# Altium footprint library Microcircuits.PcbLib: 31 footprints (part 2 of 2)
Each footprint in its own frame and in the unit in brackets; x right, y up, seen from the top. Pads: shape width x height; smd on the part's side, far side on the other; paste and mask are expansions set on the pad; w line width, h text height; cw(c..) or ccw(c..) is an arc to the next point about the centre after c.
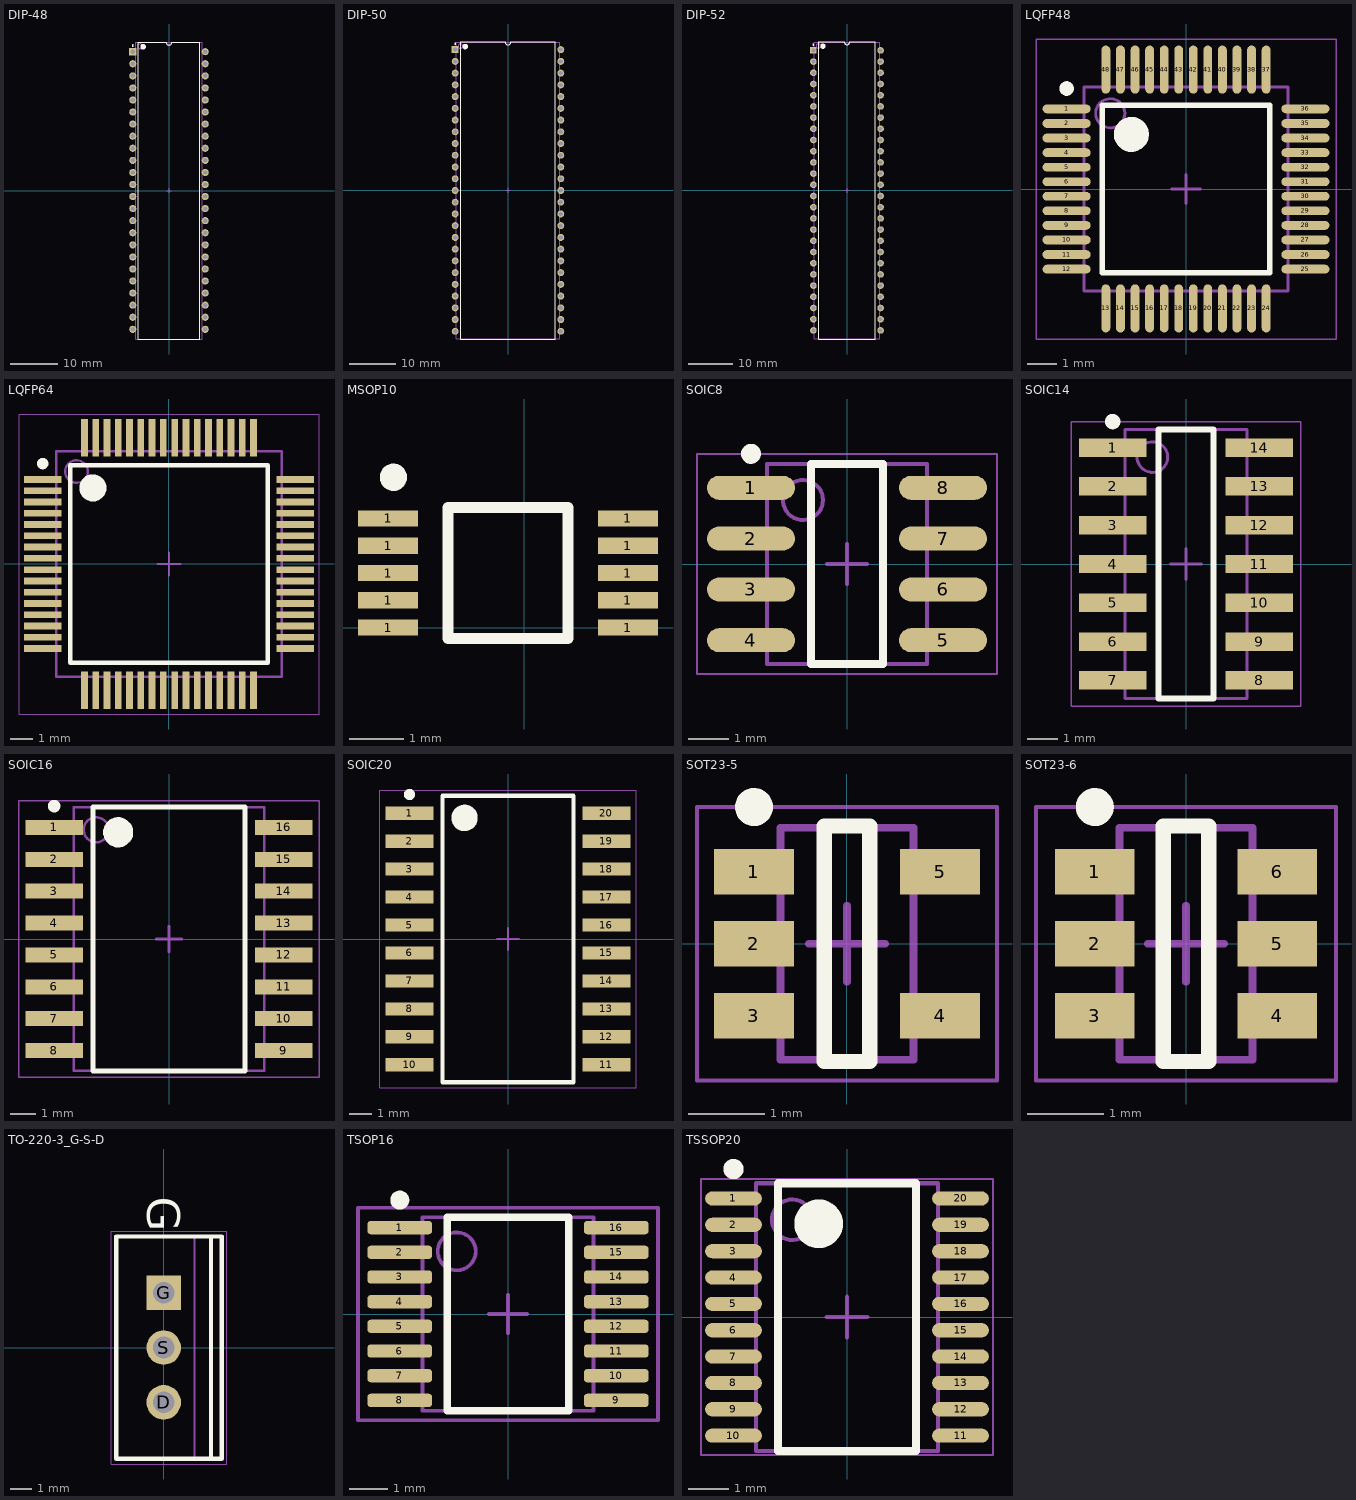
[diagram p1: the footprints below, top view; thin cyan lines are the x and y axes]

## DIP-48 [mm] "DIP, Molded, 48-Pin, Row Spacing 15.24 mm, Pitch 2.54 mm"
height 5.34
pads (48):
  rect 1.5x1.5 hole 0.9: 1(-7.62,29.21)
  round 1.5 hole 0.9: 2(-7.62,26.67) 3(-7.62,24.13) 4(-7.62,21.59) 5(-7.62,19.05) 6(-7.62,16.51) 7(-7.62,13.97) 8(-7.62,11.43) 9(-7.62,8.89) 10(-7.62,6.35) 11(-7.62,3.81) 12(-7.62,1.27) 13(-7.62,-1.27) 14(-7.62,-3.81) 15(-7.62,-6.35) 16(-7.62,-8.89) 17(-7.62,-11.43) 18(-7.62,-13.97) 19(-7.62,-16.51) 20(-7.62,-19.05) 21(-7.62,-21.59) 22(-7.62,-24.13) 23(-7.62,-26.67) 24(-7.62,-29.21) 25(7.62,-29.21) 26(7.62,-26.67) 27(7.62,-24.13) 28(7.62,-21.59) 29(7.62,-19.05) 30(7.62,-16.51) 31(7.62,-13.97) 32(7.62,-11.43) 33(7.62,-8.89) 34(7.62,-6.35) 35(7.62,-3.81) 36(7.62,-1.27) 37(7.62,1.27) 38(7.62,3.81) 39(7.62,6.35) 40(7.62,8.89) 41(7.62,11.43) 42(7.62,13.97) 43(7.62,16.51) 44(7.62,19.05) 45(7.62,21.59) 46(7.62,24.13) 47(7.62,26.67) 48(7.62,29.21)
Top Overlay:
  circle w0.25: c-7.62,30.51 r0.125
  circle w0.6: c-5.45,30.25 r0.3
  lines w0.2: -6.45,-31.25 -6.45,31.25 -0.635,31.25 ccw(c0,31.25) 0.635,31.25 6.45,31.25 6.45,-31.25 -6.45,-31.25
Mechanical 13:
  circle w0.1: c-6.075,30.35 r0.5
  lines w0.1: -6.975,-31.25 -6.975,31.25 6.975,31.25 6.975,-31.25 -6.975,-31.25
Mechanical 15:
  lines w0.1: -0.5,0 0.5,0 ; 0,-0.5 0,0.5
3D body: height 5.34, standoff 0, extent -6.975,-31.25 6.975,31.25

## DIP-50 [mm] "DIP, Ceramic, 50-Pin, Row Spacing 22.86 mm, Pitch 2.54 mm"
height 5.08
pads (50):
  rect 1.5x1.5 hole 0.9: 1(-11.43,30.48)
  round 1.5 hole 0.9: 2(-11.43,27.94) 3(-11.43,25.4) 4(-11.43,22.86) 5(-11.43,20.32) 6(-11.43,17.78) 7(-11.43,15.24) 8(-11.43,12.7) 9(-11.43,10.16) 10(-11.43,7.62) 11(-11.43,5.08) 12(-11.43,2.54) 13(-11.43,0) 14(-11.43,-2.54) 15(-11.43,-5.08) 16(-11.43,-7.62) 17(-11.43,-10.16) 18(-11.43,-12.7) 19(-11.43,-15.24) 20(-11.43,-17.78) 21(-11.43,-20.32) 22(-11.43,-22.86) 23(-11.43,-25.4) 24(-11.43,-27.94) 25(-11.43,-30.48) 26(11.43,-30.48) 27(11.43,-27.94) 28(11.43,-25.4) 29(11.43,-22.86) 30(11.43,-20.32) 31(11.43,-17.78) 32(11.43,-15.24) 33(11.43,-12.7) 34(11.43,-10.16) 35(11.43,-7.62) 36(11.43,-5.08) 37(11.43,-2.54) 38(11.43,0) 39(11.43,2.54) 40(11.43,5.08) 41(11.43,7.62) 42(11.43,10.16) 43(11.43,12.7) 44(11.43,15.24) 45(11.43,17.78) 46(11.43,20.32) 47(11.43,22.86) 48(11.43,25.4) 49(11.43,27.94) 50(11.43,30.48)
Top Overlay:
  circle w0.6: c-9.25,31.15 r0.3
  circle w0.25: c-11.43,31.78 r0.125
  lines w0.2: -10.25,-32.15 10.25,-32.15 10.25,32.15 0.635,32.15 cw(c0,32.15) -0.635,32.15 -10.25,32.15 -10.25,-32.15
Mechanical 13:
  circle w0.1: c-10.3,31.225 r0.5
  lines w0.1: -11.2,-32.125 11.2,-32.125 11.2,32.125 -11.2,32.125 -11.2,-32.125
Mechanical 15:
  lines w0.1: -0.5,0 0.5,0 ; 0,-0.5 0,0.5
3D body: height 5.08, standoff 0, extent -11.2,-32.125 11.2,32.125

## DIP-52 [mm] "DIP, Ceramic, 52-Pin, Row Spacing 15.24 mm, Pitch 2.54 mm"
height 4.45
pads (52):
  rect 1.5x1.5 hole 0.9: 1(-7.62,31.75)
  round 1.5 hole 0.9: 2(-7.62,29.21) 3(-7.62,26.67) 4(-7.62,24.13) 5(-7.62,21.59) 6(-7.62,19.05) 7(-7.62,16.51) 8(-7.62,13.97) 9(-7.62,11.43) 10(-7.62,8.89) 11(-7.62,6.35) 12(-7.62,3.81) 13(-7.62,1.27) 14(-7.62,-1.27) 15(-7.62,-3.81) 16(-7.62,-6.35) 17(-7.62,-8.89) 18(-7.62,-11.43) 19(-7.62,-13.97) 20(-7.62,-16.51) 21(-7.62,-19.05) 22(-7.62,-21.59) 23(-7.62,-24.13) 24(-7.62,-26.67) 25(-7.62,-29.21) 26(-7.62,-31.75) 27(7.62,-31.75) 28(7.62,-29.21) 29(7.62,-26.67) 30(7.62,-24.13) 31(7.62,-21.59) 32(7.62,-19.05) 33(7.62,-16.51) 34(7.62,-13.97) 35(7.62,-11.43) 36(7.62,-8.89) 37(7.62,-6.35) 38(7.62,-3.81) 39(7.62,-1.27) 40(7.62,1.27) 41(7.62,3.81) 42(7.62,6.35) 43(7.62,8.89) 44(7.62,11.43) 45(7.62,13.97) 46(7.62,16.51) 47(7.62,19.05) 48(7.62,21.59) 49(7.62,24.13) 50(7.62,26.67) 51(7.62,29.21) 52(7.62,31.75)
Top Overlay:
  circle w0.6: c-5.45,32.7 r0.3
  circle w0.25: c-7.62,33.05 r0.125
  lines w0.2: -6.45,-33.7 6.45,-33.7 6.45,33.7 0.635,33.7 cw(c0,33.7) -0.635,33.7 -6.45,33.7 -6.45,-33.7
Mechanical 13:
  circle w0.1: c-6.525,32.75 r0.5
  lines w0.1: -7.425,-33.65 7.425,-33.65 7.425,33.65 -7.425,33.65 -7.425,-33.65
Mechanical 15:
  lines w0.1: -0.5,0 0.5,0 ; 0,-0.5 0,0.5
3D body: height 4.45, standoff 0, extent -7.425,-33.65 7.425,33.65

## LQFP48 [mm]
height 1.6
pads (48):
  oval 1.65x0.3 smd: 1(-4.1,2.75) 2(-4.1,2.25) 3(-4.1,1.75) 4(-4.1,1.25) 5(-4.1,0.75) 6(-4.1,0.25) 7(-4.1,-0.25) 8(-4.1,-0.75) 9(-4.1,-1.25) 10(-4.1,-1.75) 11(-4.1,-2.25) 12(-4.1,-2.75) 25(4.1,-2.75) 26(4.1,-2.25) 27(4.1,-1.75) 28(4.1,-1.25) 29(4.1,-0.75) 30(4.1,-0.25) 31(4.1,0.25) 32(4.1,0.75) 33(4.1,1.25) 34(4.1,1.75) 35(4.1,2.25) 36(4.1,2.75)
  oval 0.3x1.65 smd: 13(-2.75,-4.1) 14(-2.25,-4.1) 15(-1.75,-4.1) 16(-1.25,-4.1) 17(-0.75,-4.1) 18(-0.25,-4.1) 19(0.25,-4.1) 20(0.75,-4.1) 21(1.25,-4.1) 22(1.75,-4.1) 23(2.25,-4.1) 24(2.75,-4.1) 37(2.75,4.1) 38(2.25,4.1) 39(1.75,4.1) 40(1.25,4.1) 41(0.75,4.1) 42(0.25,4.1) 43(-0.25,4.1) 44(-0.75,4.1) 45(-1.25,4.1) 46(-1.75,4.1) 47(-2.25,4.1) 48(-2.75,4.1)
Top Overlay:
  circle w0.6: c-1.875,1.875 r0.3
  circle w0.25: c-4.1,3.45 r0.125
  lines w0.2: -2.875,-2.875 2.875,-2.875 2.875,2.875 -2.875,2.875 -2.875,-2.875
Mechanical 13:
  circle w0.1: c-2.6,2.6 r0.5
  lines w0.1: -3.5,-3.5 3.5,-3.5 3.5,3.5 -3.5,3.5 -3.5,-3.5
Mechanical 15:
  lines w0.05: -5.15,-5.15 5.15,-5.15 5.15,5.15 -5.15,5.15 -5.15,-5.15
  lines w0.1: -0.5,0 0.5,0 ; 0,-0.5 0,0.5
3D body: height 1.6, standoff 0.1, extent -3.5,-3.5 3.5,3.5

## LQFP64 [mm]
height 1.6
pads (64):
  rect 1.65x0.3 smd: 1(-5.6,3.75) 2(-5.6,3.25) 3(-5.6,2.75) 4(-5.6,2.25) 5(-5.6,1.75) 6(-5.6,1.25) 7(-5.6,0.75) 8(-5.6,0.25) 9(-5.6,-0.25) 10(-5.6,-0.75) 11(-5.6,-1.25) 12(-5.6,-1.75) 13(-5.6,-2.25) 14(-5.6,-2.75) 15(-5.6,-3.25) 16(-5.6,-3.75) 33(5.6,-3.75) 34(5.6,-3.25) 35(5.6,-2.75) 36(5.6,-2.25) 37(5.6,-1.75) 38(5.6,-1.25) 39(5.6,-0.75) 40(5.6,-0.25) 41(5.6,0.25) 42(5.6,0.75) 43(5.6,1.25) 44(5.6,1.75) 45(5.6,2.25) 46(5.6,2.75) 47(5.6,3.25) 48(5.6,3.75)
  rect 0.3x1.65 smd: 17(-3.75,-5.6) 18(-3.25,-5.6) 19(-2.75,-5.6) 20(-2.25,-5.6) 21(-1.75,-5.6) 22(-1.25,-5.6) 23(-0.75,-5.6) 24(-0.25,-5.6) 25(0.25,-5.6) 26(0.75,-5.6) 27(1.25,-5.6) 28(1.75,-5.6) 29(2.25,-5.6) 30(2.75,-5.6) 31(3.25,-5.6) 32(3.75,-5.6) 49(3.75,5.6) 50(3.25,5.6) 51(2.75,5.6) 52(2.25,5.6) 53(1.75,5.6) 54(1.25,5.6) 55(0.75,5.6) 56(0.25,5.6) 57(-0.25,5.6) 58(-0.75,5.6) 59(-1.25,5.6) 60(-1.75,5.6) 61(-2.25,5.6) 62(-2.75,5.6) 63(-3.25,5.6) 64(-3.75,5.6)
Top Overlay:
  circle w0.25: c-5.6,4.45 r0.125
  circle w0.6: c-3.375,3.375 r0.3
  lines w0.2: -4.375,-4.375 -4.375,4.375 4.375,4.375 4.375,-4.375 -4.375,-4.375
Mechanical 13:
  circle w0.1: c-4.1,4.1 r0.5
  lines w0.1: -5,-5 -5,5 5,5 5,-5 -5,-5
Mechanical 15:
  lines w0.05: -6.65,-6.65 -6.65,6.65 6.65,6.65 6.65,-6.65 -6.65,-6.65
  lines w0.1: -0.5,0 0.5,0 ; 0,-0.5 0,0.5
3D body: height 1.6, standoff 0.05, extent -5,-5 5,5

## MSOP10 [mm] "SOIC, 8-Leads, Body 4,90x3,90mm, Pitch 1,27mm, IPC Medium Density"
height 1.75
pads (10):
  rect 1.1x0.3 smd: 1(-2.5,0) 1(-2.5,0.5) 1(-2.5,1) 1(-2.5,1.5) 1(1.9,0) 1(1.9,0.5) 1(1.9,1) 1(1.9,1.5)
  rect 1.1x0.3 smd mask+0.102: 1(-2.5,2) 1(1.9,2)
Top Overlay:
  circle w0.25: c-2.4,2.755 r0.125
  lines w0.2: -1.4,-0.2 0.8,-0.2 0.8,2.2 -1.4,2.2 -1.4,-0.2
3D body "User Library-MSOP-10-1.STEP": height 1.05, standoff 0, extent -2.814,-0.5 2.214,2.5

## SOIC8 [mm] "SOIC, 8-Leads, Body 4,90x3,90mm, Pitch 1,27mm, IPC Medium Density"
height 1.75
pads (8):
  oval 2.2x0.6 smd: 1(-2.4,1.905) 2(-2.4,0.635) 3(-2.4,-0.635) 4(-2.4,-1.905) 5(2.4,-1.905) 6(2.4,-0.635) 7(2.4,0.635) 8(2.4,1.905)
Top Overlay:
  circle w0.25: c-2.4,2.755 r0.125
  lines w0.2: -0.9,-2.5 0.9,-2.5 0.9,2.5 -0.9,2.5 -0.9,-2.5
Mechanical 13:
  circle w0.1: c-1.1,1.6 r0.5
  lines w0.1: -2,-2.5 2,-2.5 2,2.5 -2,2.5 -2,-2.5
Mechanical 15:
  lines w0.05: -3.75,-2.75 3.75,-2.75 3.75,2.75 -3.75,2.75 -3.75,-2.75
  lines w0.1: -0.5,0 0.5,0 ; 0,-0.5 0,0.5
3D body: height 1.75, standoff 0.25, extent -2,-2.5 2,2.5

## SOIC14 [mm]
height 1.75
pads (14):
  rect 2.2x0.6 smd: 1(-2.4,3.81) 2(-2.4,2.54) 3(-2.4,1.27) 4(-2.4,0) 5(-2.4,-1.27) 6(-2.4,-2.54) 7(-2.4,-3.81) 8(2.4,-3.81) 9(2.4,-2.54) 10(2.4,-1.27) 11(2.4,0) 12(2.4,1.27) 13(2.4,2.54) 14(2.4,3.81)
Top Overlay:
  circle w0.25: c-2.4,4.66 r0.125
  lines w0.2: -0.9,-4.4 0.9,-4.4 0.9,4.4 -0.9,4.4 -0.9,-4.4
Mechanical 13:
  circle w0.1: c-1.1,3.5 r0.5
  lines w0.1: -2,-4.4 2,-4.4 2,4.4 -2,4.4 -2,-4.4
Mechanical 15:
  lines w0.05: -3.75,-4.65 3.75,-4.65 3.75,4.65 -3.75,4.65 -3.75,-4.65
  lines w0.1: -0.5,0 0.5,0 ; 0,-0.5 0,0.5
3D body: height 1.75, standoff 0.1, extent -2,-4.4 2,4.4

## SOIC16 [mm]
height 2.65
pads (16):
  rect 2.3x0.6 smd: 1(-4.575,4.445) 2(-4.575,3.175) 3(-4.575,1.905) 4(-4.575,0.635) 5(-4.575,-0.635) 6(-4.575,-1.905) 7(-4.575,-3.175) 8(-4.575,-4.445) 9(4.575,-4.445) 10(4.575,-3.175) 11(4.575,-1.905) 12(4.575,-0.635) 13(4.575,0.635) 14(4.575,1.905) 15(4.575,3.175) 16(4.575,4.445)
Top Overlay:
  circle w0.6: c-2.025,4.25 r0.3
  circle w0.25: c-4.575,5.295 r0.125
  lines w0.2: -3.025,-5.25 3.025,-5.25 3.025,5.25 -3.025,5.25 -3.025,-5.25
Mechanical 13:
  circle w0.1: c-2.9,4.35 r0.5
  lines w0.1: -3.8,-5.25 3.8,-5.25 3.8,5.25 -3.8,5.25 -3.8,-5.25
Mechanical 15:
  lines w0.05: -5.975,-5.5 5.975,-5.5 5.975,5.5 -5.975,5.5 -5.975,-5.5
  lines w0.1: -0.5,0 0.5,0 ; 0,-0.5 0,0.5
3D body: height 2.65, standoff 0.1, extent -3.8,-5.25 3.8,5.25

## SOIC20 [mm]
height 1
pads (20):
  rect 2.2x0.6 smd: 1(-4.475,5.715) 2(-4.475,4.445) 3(-4.475,3.175) 4(-4.475,1.905) 5(-4.475,0.635) 6(-4.475,-0.635) 7(-4.475,-1.905) 8(-4.475,-3.175) 9(-4.475,-4.445) 10(-4.475,-5.715) 11(4.475,-5.715) 12(4.475,-4.445) 13(4.475,-3.175) 14(4.475,-1.905) 15(4.475,-0.635) 16(4.475,0.635) 17(4.475,1.905) 18(4.475,3.175) 19(4.475,4.445) 20(4.475,5.715)
Top Overlay:
  circle w0.25: c-4.475,6.565 r0.125
  circle w0.6: c-1.975,5.5 r0.3
  lines w0.2: -2.975,-6.5 -2.975,6.5 2.975,6.5 2.975,-6.5 -2.975,-6.5
Mechanical 15:
  lines w0.05: -5.825,-6.75 -5.825,6.75 5.825,6.75 5.825,-6.75 -5.825,-6.75
  lines w0.1: -0.5,0 0.5,0 ; 0,-0.5 0,0.5
3D body "User Library-SOIC_20-300.STEP": height 2.6, standoff 0, extent -5.2,-6.3 5.2,6.3

## SOT23-5 [mm]
height 1.45
pads (5):
  rect 1.05x0.6 smd: 1(-1.225,0.95) 2(-1.225,0) 3(-1.225,-0.95) 4(1.225,-0.95) 5(1.225,0.95)
Top Overlay:
  circle w0.25: c-1.225,1.8 r0.125
  lines w0.2: -0.3,-1.55 -0.3,1.55 0.3,1.55 0.3,-1.55 -0.3,-1.55
Mechanical 13:
  lines w0.1: -0.875,-1.525 0.875,-1.525 0.875,1.525 -0.875,1.525 -0.875,-1.525
Mechanical 15:
  lines w0.05: -1.975,-1.8 1.975,-1.8 1.975,1.8 -1.975,1.8 -1.975,-1.8
  lines w0.1: -0.5,0 0.5,0 ; 0,-0.5 0,0.5
3D body: height 1.45, standoff 0.1, extent -0.875,-1.525 0.875,1.525

## SOT23-6 [mm]
height 1.1
pads (6):
  rect 1.05x0.6 smd: 1(-1.2,0.95) 2(-1.2,0) 3(-1.2,-0.95) 4(1.2,-0.95) 5(1.2,0) 6(1.2,0.95)
Top Overlay:
  circle w0.25: c-1.2,1.8 r0.125
  lines w0.2: -0.3,-1.55 0.3,-1.55 0.3,1.55 -0.3,1.55 -0.3,-1.55
Mechanical 13:
  lines w0.1: -0.875,-1.525 -0.875,1.525 0.875,1.525 0.875,-1.525 -0.875,-1.525
Mechanical 15:
  lines w0.05: -1.975,-1.8 -1.975,1.8 1.975,1.8 1.975,-1.8 -1.975,-1.8
  lines w0.1: -0.5,0 0.5,0 ; 0,-0.5 0,0.5
3D body: height 1.1, standoff 0.1, extent -0.875,-1.525 0.875,1.525

## TO-220-3_G-S-D [mm] "FM, 3-Leads, Body 10.3x4.85mm, Pitch 2.54mm"
height 19.68
pads (3):
  round 1.6 hole 1: D(0,-2.54) S(0,0)
  rect 1.6x1.6 hole 1: G(0,2.54)
Top Overlay:
  lines w0.2: 2.195,-5.15 2.195,5.15 ; -2.205,-5.15 2.695,-5.15 2.695,5.15 -2.205,5.15 -2.205,-5.15
  text "G" at -0.762,6.985 h1.52
Mechanical 13:
  lines w0.1: 1.42,-5.15 1.42,5.15 ; -2.18,-5.15 -2.18,5.15 2.67,5.15 2.67,-5.15 -2.18,-5.15
Mechanical 15:
  lines w0.05: -2.43,-5.4 -2.43,5.4 2.92,5.4 2.92,-5.4 -2.43,-5.4
  lines w0.1: -0.5,0 0.5,0 ; 0,-0.5 0,0.5
3D body: height 2.8, standoff 0, extent -0.25,1.87 0.25,3.21
3D body: height 0, standoff -1.6, extent -0.25,2.16 0.25,2.92
3D body: height 2.8, standoff 0, extent -0.25,-0.67 0.25,0.67
3D body: height 0, standoff -1.6, extent -0.25,-0.38 0.25,0.38
3D body: height 2.8, standoff 0, extent -0.25,-3.21 0.25,-1.87
3D body: height 0, standoff -1.6, extent -0.25,-2.92 0.25,-2.16
3D body: height 13.48, standoff 2.8, extent -2.18,-5.15 2.67,5.15
3D body: height 14.96, standoff 13.48, extent 1.42,-4.975 2.67,4.975
3D body: height 15, standoff 14.96, extent 1.42,0.376 2.67,4.975
3D body: height 15, standoff 14.96, extent 1.42,-4.975 2.67,-0.376
3D body: height 18.81, standoff 18.77, extent 1.42,0.376 2.67,4.975
3D body: height 18.81, standoff 18.77, extent 1.42,-4.975 2.67,-0.376
3D body: height 15.11, standoff 14.99, extent 1.42,0.737 2.67,4.975
3D body: height 15.11, standoff 14.99, extent 1.42,-4.975 2.67,-0.737
3D body: height 18.77, standoff 18.66, extent 1.42,0.737 2.67,4.975
3D body: height 18.77, standoff 18.66, extent 1.42,-4.975 2.67,-0.737
3D body: height 15.28, standoff 15.1, extent 1.42,1.069 2.67,4.975
3D body: height 15.28, standoff 15.1, extent 1.42,-4.975 2.67,-1.069
3D body: height 18.66, standoff 18.48, extent 1.42,1.069 2.67,4.975
3D body: height 18.66, standoff 18.48, extent 1.42,-4.975 2.67,-1.069
3D body: height 15.52, standoff 15.28, extent 1.42,1.361 2.67,4.975
3D body: height 15.52, standoff 15.28, extent 1.42,-4.975 2.67,-1.361
3D body: height 18.49, standoff 18.24, extent 1.42,1.361 2.67,4.975
3D body: height 18.49, standoff 18.24, extent 1.42,-4.975 2.67,-1.361
3D body: height 15.82, standoff 15.52, extent 1.42,1.601 2.67,4.975
3D body: height 15.82, standoff 15.52, extent 1.42,-4.975 2.67,-1.601
3D body: height 18.25, standoff 17.95, extent 1.42,1.601 2.67,4.975
3D body: height 18.25, standoff 17.95, extent 1.42,-4.975 2.67,-1.601
3D body: height 16.15, standoff 15.81, extent 1.42,1.778 2.67,4.975
3D body: height 16.15, standoff 15.81, extent 1.42,-4.975 2.67,-1.778
3D body: height 17.95, standoff 17.62, extent 1.42,1.778 2.67,4.975
3D body: height 17.95, standoff 17.62, extent 1.42,-4.975 2.67,-1.778
3D body: height 16.51, standoff 16.14, extent 1.42,1.888 2.67,4.975
3D body: height 16.51, standoff 16.14, extent 1.42,-4.975 2.67,-1.888
3D body: height 17.62, standoff 17.26, extent 1.42,1.888 2.67,4.975
3D body: height 17.62, standoff 17.26, extent 1.42,-4.975 2.67,-1.888
3D body: height 16.88, standoff 16.5, extent 1.42,1.925 2.67,4.975
3D body: height 16.88, standoff 16.5, extent 1.42,-4.975 2.67,-1.925
3D body: height 17.26, standoff 16.88, extent 1.42,1.925 2.67,4.975
3D body: height 17.26, standoff 16.88, extent 1.42,-4.975 2.67,-1.925
3D body: height 19.68, standoff 18.81, extent 1.42,-4.975 2.67,4.975

## TSOP16 [mm] "TSOP, 16-Leads, Body 5x4.4mm, Pitch 0.65mm, IPC Medium Density"
pads (16):
  rrect50% 1.7x0.35 smd: 1(-2.85,2.275) 2(-2.85,1.625) 3(-2.85,0.975) 4(-2.85,0.325) 5(-2.85,-0.325) 6(-2.85,-0.975) 7(-2.85,-1.625) 8(-2.85,-2.275) 9(2.85,-2.275) 10(2.85,-1.625) 11(2.85,-0.975) 12(2.85,-0.325) 13(2.85,0.325) 14(2.85,0.975) 15(2.85,1.625) 16(2.85,2.275)
Top Overlay:
  circle w0.25: c-2.85,3 r0.125
  lines w0.2: -1.6,-2.55 -1.6,2.55 1.6,2.55 1.6,-2.55 -1.6,-2.55
Mechanical 13:
  circle w0.1: c-1.35,1.65 r0.5
  lines w0.1: -2.25,-2.55 -2.25,2.55 2.25,2.55 2.25,-2.55 -2.25,-2.55
Mechanical 15:
  lines w0.1: -0.5,0 0.5,0 ; 0,-0.5 0,0.5 ; -3.95,-2.8 -3.95,2.8 3.95,2.8 3.95,-2.8 -3.95,-2.8
3D body: height 0.25, standoff 0.13, extent -2.603,2.184 -1.867,2.362
3D body: height 0.13, standoff 0, extent -3.226,2.184 -2.54,2.362
3D body: height 0.25, standoff 0.13, extent -2.629,1.524 -1.892,1.702
3D body: height 0.13, standoff 0, extent -3.251,1.524 -2.565,1.702
3D body: height 0.13, standoff 0, extent -3.302,-2.362 -2.616,-2.184
3D body: height 0.25, standoff 0.13, extent -2.68,-2.362 -1.943,-2.184
3D body: height 0.13, standoff 0, extent -3.277,-1.702 -2.591,-1.524
3D body: height 0.25, standoff 0.13, extent -2.654,-1.702 -1.918,-1.524
3D body: height 0.13, standoff 0, extent -3.277,-1.041 -2.591,-0.864
3D body: height 0.25, standoff 0.13, extent -2.629,-1.041 -1.892,-0.864
3D body: height 0.13, standoff 0, extent -3.251,-0.406 -2.565,-0.229
3D body: height 0.25, standoff 0.13, extent -2.629,-0.406 -1.892,-0.229
3D body: height 0.25, standoff 0.13, extent -2.629,0.203 -1.892,0.381
3D body: height 0.13, standoff 0, extent -3.251,0.203 -2.565,0.381
3D body: height 0.25, standoff 0.13, extent -2.578,0.838 -1.841,1.016
3D body: height 0.13, standoff 0, extent -3.2,0.838 -2.515,1.016
3D body: height 0.25, standoff 0.13, extent -2.603,1.473 -1.867,1.651
3D body: height 0.13, standoff 0, extent -3.226,1.473 -2.54,1.651
3D body: height 0.13, standoff 0, extent 2.607,-1.666 3.292,-1.488
3D body: height 0.25, standoff 0.13, extent 1.934,-1.666 2.67,-1.488
3D body: height 0.13, standoff 0, extent 2.581,-1.031 3.267,-0.853
3D body: height 0.25, standoff 0.13, extent 1.908,-1.031 2.645,-0.853
3D body: height 0.13, standoff 0, extent 2.632,-0.396 3.318,-0.218
3D body: height 0.25, standoff 0.13, extent 1.959,-0.396 2.696,-0.218
3D body: height 0.25, standoff 0.13, extent 1.959,0.214 2.696,0.391
3D body: height 0.13, standoff 0, extent 2.632,0.214 3.318,0.391
3D body: height 0.25, standoff 0.13, extent 1.959,0.849 2.696,1.026
3D body: height 0.13, standoff 0, extent 2.657,0.849 3.343,1.026
3D body: height 0.25, standoff 0.13, extent 1.984,1.509 2.721,1.687
3D body: height 0.13, standoff 0, extent 2.657,1.509 3.343,1.687
3D body: height 0.25, standoff 0.13, extent 2.01,2.169 2.746,2.347
3D body: height 0.13, standoff 0, extent 2.683,2.169 3.369,2.347
3D body: height 1.1, standoff 0, extent -2.037,-2.23 1.951,2.774
3D body: height 0.13, standoff 0, extent 2.632,-1.717 3.318,-1.539
3D body: height 0.25, standoff 0.13, extent 1.959,-1.717 2.696,-1.539
3D body: height 0.13, standoff 0, extent 2.607,-2.377 3.292,-2.199
3D body: height 0.25, standoff 0.13, extent 1.934,-2.377 2.67,-2.199

## TSSOP20 [mm] "TSOP, 20-Leads, Body 6.5x4.4mm, Pitch 0.65mm, IPC High Density"
height 1.2
pads (20):
  oval 1.4x0.35 smd: 1(-2.8,2.925) 2(-2.8,2.275) 3(-2.8,1.625) 4(-2.8,0.975) 5(-2.8,0.325) 6(-2.8,-0.325) 7(-2.8,-0.975) 8(-2.8,-1.625) 9(-2.8,-2.275) 10(-2.8,-2.925) 11(2.8,-2.925) 12(2.8,-2.275) 13(2.8,-1.625) 14(2.8,-0.975) 15(2.8,-0.325) 16(2.8,0.325) 17(2.8,0.975) 18(2.8,1.625) 19(2.8,2.275) 20(2.8,2.925)
Top Overlay:
  circle w0.6: c-0.7,2.3 r0.3
  circle w0.25: c-2.8,3.65 r0.125
  lines w0.2: -1.7,-3.3 1.7,-3.3 1.7,3.3 -1.7,3.3 -1.7,-3.3
Mechanical 13:
  circle w0.1: c-1.35,2.4 r0.5
  lines w0.1: -2.25,-3.3 2.25,-3.3 2.25,3.3 -2.25,3.3 -2.25,-3.3
Mechanical 15:
  lines w0.05: -3.6,-3.4 3.6,-3.4 3.6,3.4 -3.6,3.4 -3.6,-3.4
  lines w0.1: -0.5,0 0.5,0 ; 0,-0.5 0,0.5
3D body: height 1.2, standoff 0.05, extent -2.25,-3.3 2.25,3.3